# Altium footprint library DAU_Kupplung_3phasig_V1_13.PcbLib: 25 footprints (part 1 of 2)
Each footprint in its own frame and in the unit in brackets; x right, y up, seen from the top. Pads: shape width x height; smd on the part's side, far side on the other; paste and mask are expansions set on the pad; w line width, h text height; cw(c..) or ccw(c..) is an arc to the next point about the centre after c.
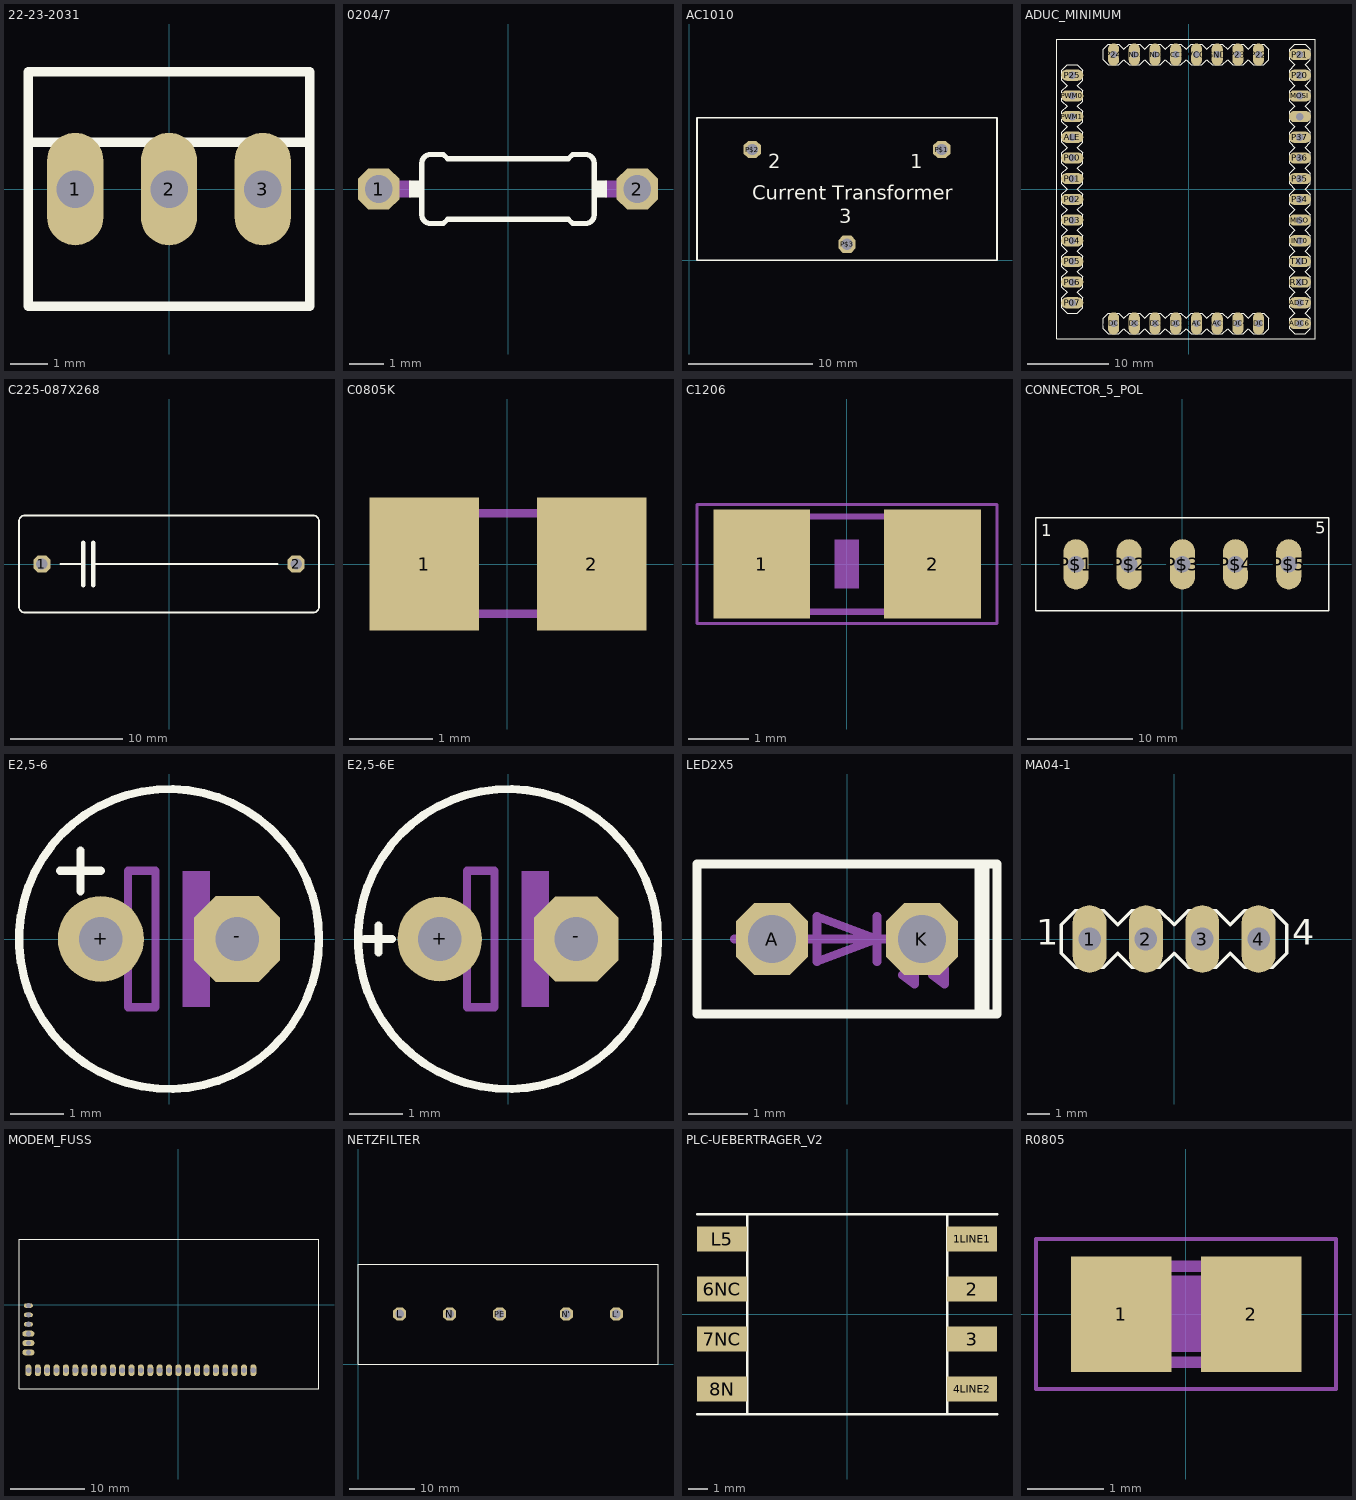
[diagram p0: the footprints below, top view; thin cyan lines are the x and y axes]

## 22-23-2031 [mil] "22-23-2031"
pads (3):
  oval 60x120 hole 40: 1(-100,0) 2(0,0) 3(100,0)
Top Overlay:
  lines w10: -150,50 150,50 ; -150,50 -150,125 150,125 150,50 ; -150,50 -150,-125 150,-125 150,50

## 0204/7 [mil] "0204/7"
pads (2):
  oct 48x48 hole 32: 1(-150,0) 2(150,0)
Top Overlay:
  rectangle: 100,-10 115,10
  rectangle: -115,-10 -100,10
  lines w6: -100,-30 ccw(c-90,-30) -90,-40 -75,-40 -70,-35 70,-35 75,-40 90,-40 ccw(c90,-30) 100,-30 100,30 ccw(c90,30) 90,40 75,40 70,35 -70,35 -75,40 -90,40 ccw(c-90,30) -100,30 -100,-30
Mechanical 16:
  lines w20: -150,0 -115,0 ; 115,0 150,0

## AC1010 [mil] "AC1010"
pads (3):
  oct 54x54 hole 36: P$1(800,350) P$2(200,350) P$3(500,50)
Top Overlay:
  lines w5: 25,0 975,0 975,450 25,450 25,0
  text "Current Transformer" at 200,175 h77.5
  text "3" at 475,100 h77.5
  text "2" at 250,275 h77.5
  text "1" at 700,275 h77.5

## ADUC_MINIMUM [mil] "ADUC_MINIMUM"
pads (42):
  oval 54x108 hole 36: ADC0(-362.5,-650) ADC1(-262.5,-650) ADC2(-162.5,-650) ADC3(-62.5,-650) ADC4(238,-650) ADC5(338,-650) DAC0(38,-650) DAC1(138,-650) GND(138,650) GND2(-162.5,650) GND3(-262.5,650) P22(338,650) P23(238,650) P24(-362.5,650) VCC(38,650) VCC1(-62.5,650)
  oval 108x54 hole 36: ADC6(538,-650) ADC7(538,-550) ALE(-562.5,250) INT0(538,-250) MISO(538,-150) MOSI(538,450) P00(-562.5,150) P01(-562.5,50) P02(-562.5,-50) P03(-562.5,-150) P04(-562.5,-250) P05(-562.5,-350) P06(-562.5,-450) P07(-562.5,-550) P20(538,550) P21(538,650) P25(-562.5,550) P34(538,-50) P35(538,50) P36(538,150) P37(538,250) PWM0(-562.5,450) PWM1(-562.5,350) RXD(538,-450) SCLOCK(538,350) TXD(538,-350)
Top Overlay:
  drawing of 264 lines, arcs and shapes, not listed

## C225-087X268 [mil] "C225-087X268"
pads (2):
  oct 60x60 hole 40: 1(-445,0) 2(445,0)
Top Overlay:
  lines w6: -380,0 -300,0 ; -265,0 380,0 ; -525,-150 ccw(c-505,-150) -505,-170 505,-170 ccw(c505,-150) 525,-150 525,150 ccw(c505,150) 505,170 -505,170 ccw(c-505,150) -525,150 -525,-150
  lines w16: -300,-75 -300,0 -300,75 ; -265,-75 -265,0 -265,75

## C0805K [mil] "C0805K"
pads (2):
  rect 52x63 smd: 1(-39.37,0) 2(40,0)
Mechanical 16:
  rectangle: 20,-25.59 40,26
  rectangle: -39.37,-25.59 -19.69,26
  lines w4: -36.42,-23.62 37,-23.62 ; -36.42,24 37,24

## C1206 [mil] "C1206"
pads (2):
  rect 63x71 smd: 1(-55.12,0) 2(56,0)
Mechanical 7:
  rectangle: -7.87,-15.75 8,16
Mechanical 16:
  rectangle: 38,-33.43 67,34
  rectangle: -67,-33.5 -37.47,34
  lines w2: -97.36,-38.7 -97.36,39 98,39 98,-38.7 -97.36,-38.7
  lines w4: -37.99,-30.98 38,-30.98 ; -37.99,31 38,31

## CONNECTOR_5_POL [mil] "CONNECTOR_5_POL"
pads (5):
  oval 94.5x189 hole 63: P$1(-400,0) P$2(-200,0) P$3(0,0) P$4(200,0) P$5(400,0)
Top Overlay:
  lines w5: -550,-175 -550,175 550,175 550,-175 -550,-175
  text "1" at -530,90 h77.5
  text "5" at 500,100 h77.5

## E2,5-6 [mil] "E2,5-6"
pads (2):
  round 63 hole 32: +(-50,0)
  oct 63x63 hole 32: -(50,0)
Top Overlay:
  circle w6: c0,0 r110
  lines w6: -80,50 -65,50 ; -65,35 -65,50 ; -65,65 -65,50 ; -50,50 -65,50
Mechanical 16:
  rectangle: 10,-50 30,50
  lines w6: -65,0 -30,0 ; 25,0 65,0 ; -30,0 -30,50 -10,50 -10,-50 -30,-50 -30,0

## E2,5-6E [mil] "E2,5-6E"
pads (2):
  round 62 hole 32: +(-50,0)
  oct 62x62 hole 32: -(50,0)
Top Overlay:
  circle w6: c0,0 r110
  lines w6: -105,0 -85,0 ; -95,-10 -95,10
Mechanical 16:
  rectangle: 10,-50 30,50
  lines w6: -65,0 -30,0 ; 25,0 65,0 ; -30,0 -30,50 -10,50 -10,-50 -30,-50 -30,0

## LED2X5 [mil] "LED2X5"
pads (2):
  oct 48x48 hole 32: A(-50,0) K(50,0)
Top Overlay:
  rectangle: 85,-50 95,50
  lines w6: -100,-50 -100,50 100,50 100,-50 -100,-50
Mechanical 16:
  lines w6: -75,0 20,0 ; 20,-15 20,0 ; 20,15 20,0 ; 35,-10 45,-30 ; 55,-10 65,-30 ; 70,0 20,0 ; 20,0 -20,-15 -20,15 20,0 ; 45,-30 37,-24 45,-20 45,-30 ; 65,-30 57,-24 65,-20 65,-30

## MA04-1 [mil] "MA04-1"
pads (4):
  oval 60x120 hole 40: 1(-150,0) 2(-50,0) 3(50,0) 4(150,0)
Top Overlay:
  lines w6: -200,-25 -200,25 -175,50 -125,50 -100,25 -75,50 -25,50 0,25 25,50 75,50 100,25 125,50 175,50 200,25 200,-25 175,-50 125,-50 100,-25 75,-50 25,-50 0,-25 -25,-50 -75,-50 -100,-25 -125,-50 -175,-50 -200,-25
  text "1" at -245,-25 h77.5
  text "4" at 210,-25 h77.5
Mechanical 16:
  rectangle: -60,-10 -40,10
  rectangle: -160,-10 -140,10
  rectangle: 40,-10 60,10
  rectangle: 140,-10 160,10

## MODEM_FUSS [mil] "MODEM_FUSS"
pads (31):
  oval 32x64 hole 28: P$1(-800,-350) P$2(-750,-350) P$3(-700,-350) P$4(-650,-350) P$5(-600,-350) P$6(-550,-350) P$7(-500,-350) P$8(-450,-350) P$9(-400,-350) P$10(-350,-350) P$11(-300,-350) P$12(-250,-350) P$13(-200,-350) P$14(-150,-350) P$15(-100,-350) P$16(-50,-350) P$17(0,-350) P$18(50,-350) P$19(100,-350) P$20(150,-350) P$21(200,-350) P$22(250,-350) P$23(300,-350) P$24(350,-350) P$25(400,-350)
  oval 48x24 hole 28: P$26(-800,-5) P$27(-800,-55) P$28(-800,-105)
  oval 64x32 hole 28: P$29(-800,-155) P$30(-800,-205) P$31(-800,-255)
Top Overlay:
  lines w5: -850,-450 -850,350 750,350 750,-450 -850,-450

## NETZFILTER [mil] "NETZFILTER"
pads (5):
  oct 78x78 hole 52: L(250,300) L'(1550,300) N(550,300) N'(1250,300) PE(850,300)
Top Overlay:
  lines w5: 0,0 0,600 1800,600 1800,0 0,0

## PLC-UEBERTRAGER_V2 [mil] "PLC-UEBERTRAGER_V2"
pads (8):
  rect 100x50 smd: 1LINE1(250,150) 2(250,50) 3(250,-50) 4LINE2(250,-150) 6NC(-250,50) 7NC(-250,-50) 8N(-250,-150) L5(-250,150)
Top Overlay:
  lines w5: -300,-200 300,-200 ; -300,200 300,200 ; -200,200 -200,-200 200,-200 200,200

## R0805 [mil] "R0805"
pads (2):
  rect 52x60 smd: 1(-33.46,0) 2(34,0)
Mechanical 6:
  rectangle: -7.87,-19.69 8,20
Mechanical 16:
  rectangle: -42,-27.5 -16.41,28
  rectangle: 16,-27.5 42,28
  lines w2: -77.68,-38.7 -77.68,39 78,39 78,-38.7 -77.68,-38.7
  lines w6: -16.14,-25 17,-25 ; -16.14,25 17,25